# EAGLE library part 648107131822 (library Wurth_Connectors_WR-WTB)
WR-WTB 1.50 mm SMT Male Horizontal Shrouded Header KIND PROPERTIES: Pitch:1.5 mm Gender:Male MATERIAL PROPERTIES: Insulator Material :PA6T Insulator Flammability Rating:UL94 V-0 Color:Ivory Contact Material:Copper Alloy Contact Plating:Tin Contact Type:Stamped GENERAL INFORMATION Operating Temperature:-25 up to +85 °C Compliance: RoHS Working Voltage:50 V (AC) Withstanding Voltage:500 V (AC) Contact Resistance:20 mΩ RISO:500MΩ CERTIFICATION UL Approval:E323964 PACKAGING PROPERTIES Packaging:Tape and Reel <https://katalog.we-online.com/media/images/v2/o33368v209%20Family_WR-WTB_6481xx131822.jpg> Details see: https://katalog.we-online.com/en/em/WTB_1_50_SMT_MALE_HORIZONTAL_SHROUDED_HEADER_6481XX131822 Updated by Yingchun,Shan 2019-11-08 2019 (C) Würth Elektronik
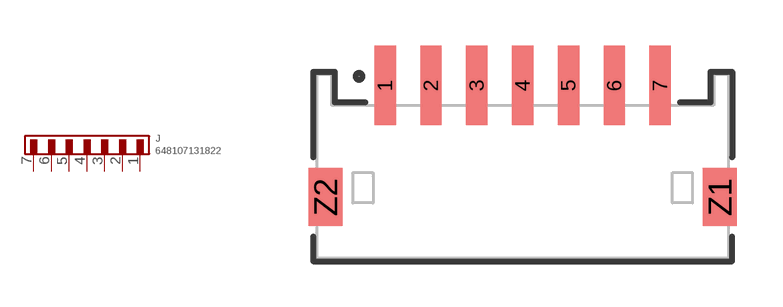
[diagram p73: symbol with the pads of 648107131822; footprint 648107131822]

Designator prefix J

## 648107131822 (CONTACT-RESISTANCE: 20mOhm; DATASHEET-URL: https://www.we-online.com/redexpert/spec/648107131822?ae; GENDER: Male; IR: 1A; L: 13.5mm; MOUNT: SMT; PACKAGING: Tape and Reel; PART-NUMBER: 648107131822; PCB-CABLE-PANEL: PCB; PINS: 7; PITCH: 1.5mm; TYPE: Horizontal; VALUE: 648107131822; WORKING-VOLTAGE: 50V(AC))  [648107131822]
1  1  pas
2  2  pas
3  3  pas
4  4  pas
5  5  pas
6  6  pas
7  7  pas

## Footprint 648107131822 (pad centres in mm)
WR-WTB 1.50 mm SMT Male Horizontal Shrouded Header,7 Pins
smd 0.7 x 2.6: 1 -4.5,2.65; 2 -3,2.65; 3 -1.5,2.65; 4 0,2.65; 5 1.5,2.65; 6 3,2.65; 7 4.5,2.65
smd 1.1 x 1.9: Z1 6.45,-1; Z2 -6.45,-1